# EAGLE library part 87520-0010BLF (library 87520-0010BLF)
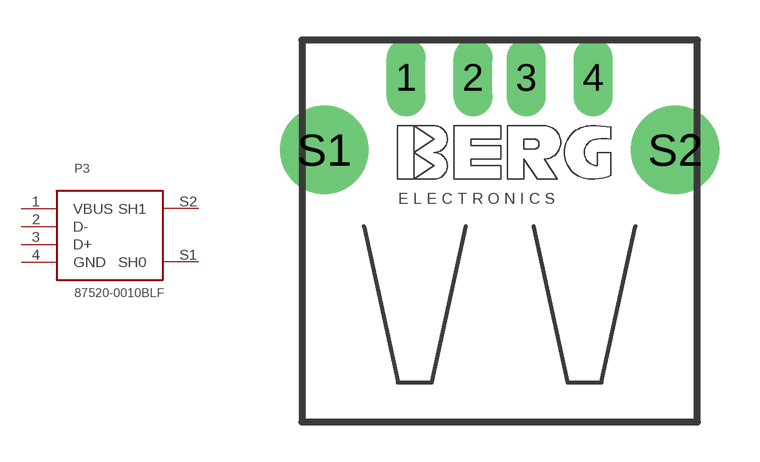
[diagram p0: symbol with the pads of 87520-0010BLF; footprint 87520-0010BLF]

Designator prefix -

## 87520-0010BLF  [87520-0010BLF]
1  VBUS
2  D-
3  D+
4  GND
S1  SH0
S2  SH1

## Footprint 87520-0010BLF (pad centres in mm)
drill 0.95 long: 1 -14.93,5.25; 2 -12.43,5.25; 3 -10.43,5.25; 4 -7.93,5.25
drill 2.3 pad 2.9: S1 -18,2.54; S2 -4.86,2.54